# Altium schematic symbol library LMZ23605.SchLib: 1 symbol
Pins are listed as number, name and electrical type; pins without a type are passive.

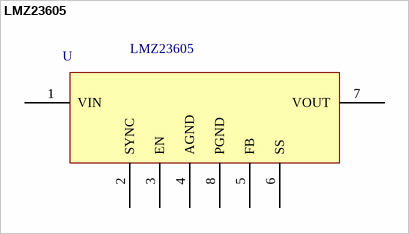
[diagram p0: symbol LMZ23605]

## LMZ23605
designator U  value LMZ23605  (hidden comment: *)
Manufacturer: Texas Instruments; Manufacturer Code: LMZ23605TZ; Input Voltage (Max): 36V; Output Current: 5A; Farnell Code: 1890059; Unit Price: 21,66 €
footprint TZA07A (Footprint not found)
pins: 1 VIN, 2 SYNC, 3 EN, 4 AGND, 5 FB, 6 SS, 7 VOUT, 8 PGND